# Altium footprint library SamacSys.PcbLib: 20 footprints (part 1 of 2)
Each footprint in its own frame and in the unit in brackets; x right, y up, seen from the top. Pads: shape width x height; smd on the part's side, far side on the other; paste and mask are expansions set on the pad; w line width, h text height; cw(c..) or ccw(c..) is an arc to the next point about the centre after c.
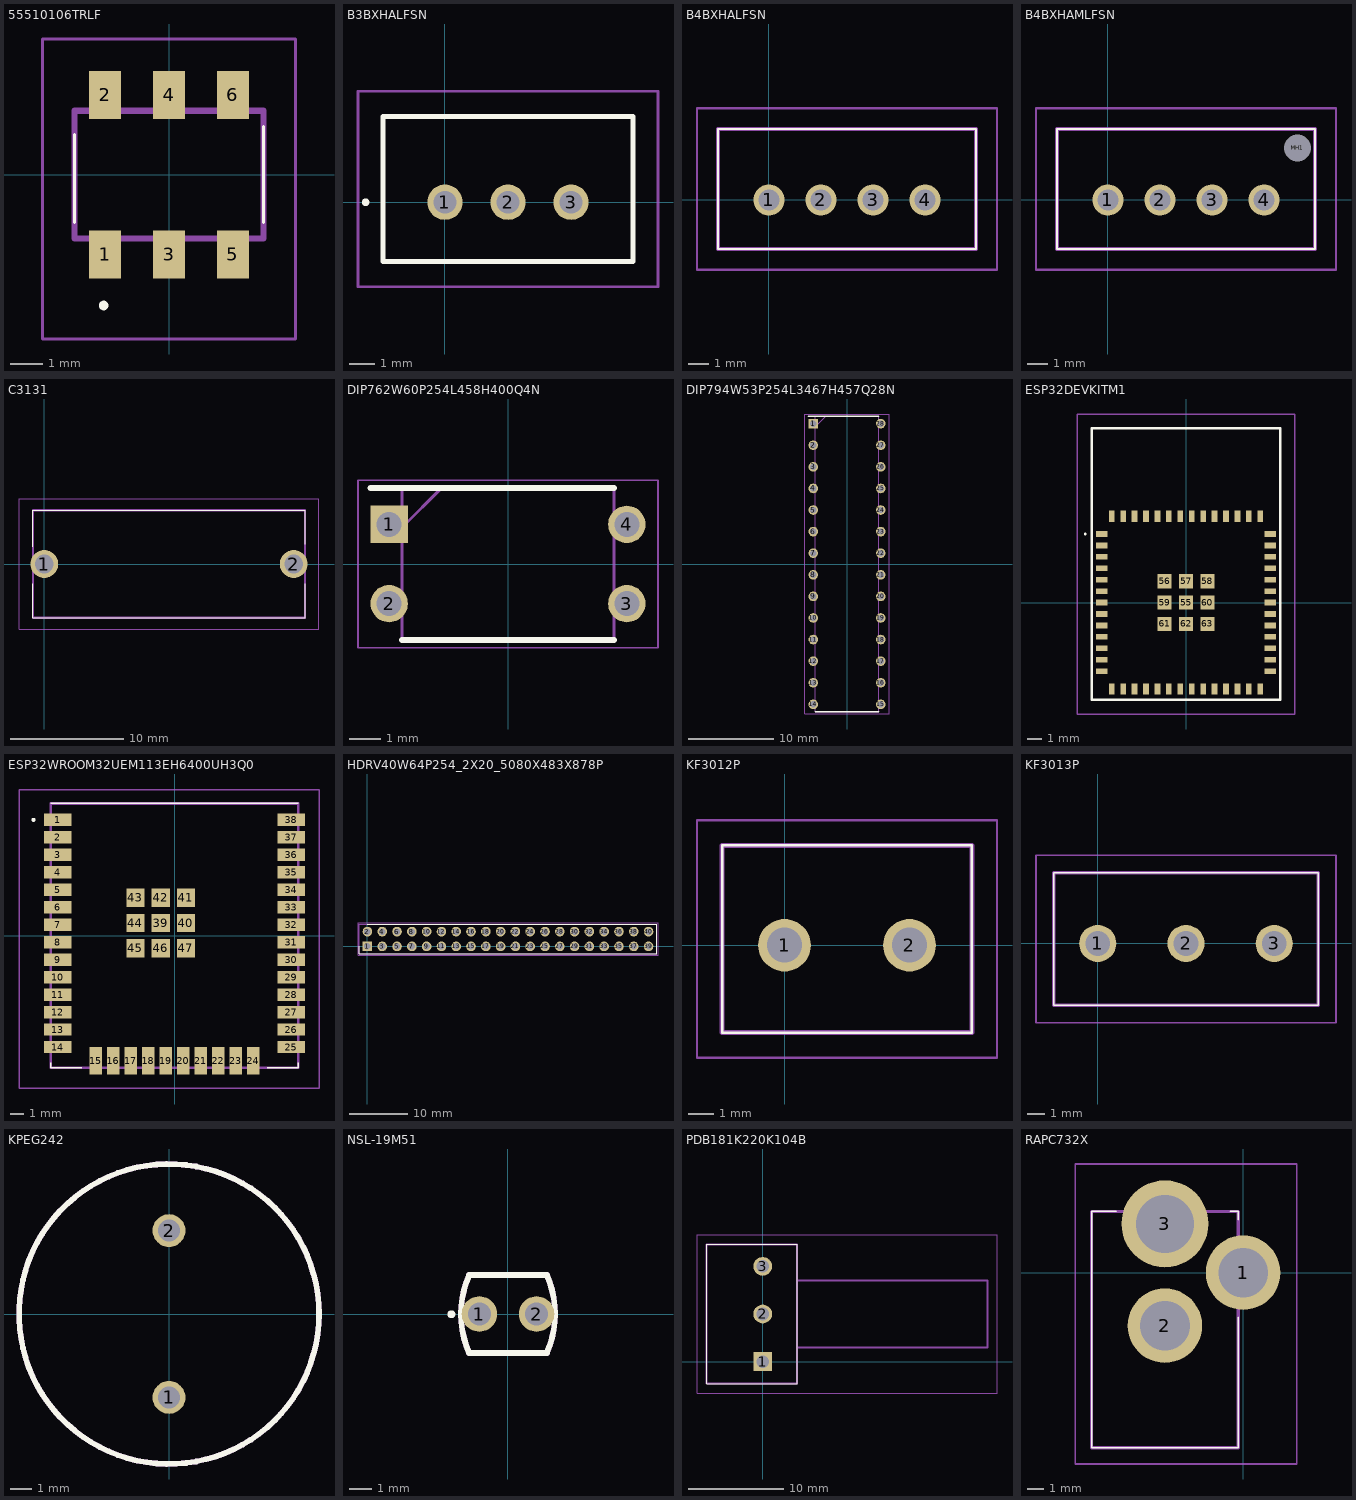
[diagram p0: the footprints below, top view; thin cyan lines are the x and y axes]

## 55510106TRLF [mm]
pads (6):
  rect 1x1.5 smd: 1(-2,-2.5) 2(-2,2.5) 3(0,-2.5) 4(0,2.5) 5(2,-2.5) 6(2,2.5)
Top Overlay:
  lines w0.1: -2.96,-1.5 -2.96,1.25 -2.96,-1.5 ; 2.96,-1.5 2.96,1.5 2.96,-1.5
  lines w0.2: -2.1,-4.1 ccw(c-2.05,-4.1) -2,-4.1 ; -2.1,-4.1 cw(c-2.05,-4.1) -2,-4.1 ; -2.1,-4.1 ccw(c-2.05,-4.1) -2,-4.1
Mechanical 13:
  lines w0.2: -2.96,-2 -2.96,2 2.96,2 2.96,-2 -2.96,-2
Mechanical 15:
  lines w0.1: -3.96,-5.15 -3.96,4.25 3.96,4.25 3.96,-5.15 -3.96,-5.15
3D body "55510-106TRLF.stp": height 4.6, standoff 0, extent -2.96,-3.15 2.96,3.15

## B3BXHALFSN [mm]
pads (3):
  round 1.4 hole 0.9: 1(0,0) 2(2.5,0) 3(5,0)
Top Overlay:
  lines w0.2: -3.2,0 ccw(c-3.15,0) -3.1,0 ; -3.2,0 cw(c-3.15,0) -3.1,0 ; -3.2,0 ccw(c-3.15,0) -3.1,0 ; -2.45,-2.35 7.45,-2.35 7.45,3.4 -2.45,3.4 -2.45,-2.35
Mechanical 13:
  lines w0.1: -2.45,-2.35 7.45,-2.35 7.45,3.4 -2.45,3.4 -2.45,-2.35
Mechanical 15:
  lines w0.1: -3.45,-3.35 8.45,-3.35 8.45,4.4 -3.45,4.4 -3.45,-3.35
3D body "B3B-XH-A_LF__SN_.stp": height 7.09, standoff -3.31, extent -2.449,-2.349 7.451,3.401

## B4BXHALFSN [mm]
pads (4):
  round 1.5 hole 1: 1(0,0) 2(2.5,0) 3(5,0) 4(7.5,0)
Top Overlay:
  lines w0.1: -2.45,-2.35 9.95,-2.35 9.95,3.4 -2.45,3.4 -2.45,-2.35
Mechanical 13:
  lines w0.2: -2.45,-2.35 9.95,-2.35 9.95,3.4 -2.45,3.4 -2.45,-2.35
Mechanical 15:
  lines w0.1: -3.45,-3.35 10.95,-3.35 10.95,4.4 -3.45,4.4 -3.45,-3.35
3D body "B4B-XH-A_LF__SN_.stp": height 7.52, standoff -2.88, extent -2.454,-2.355 9.946,3.395

## B4BXHAMLFSN [mm]
pads (5):
  round 1.5 hole 1: 1(0,0) 2(2.5,0) 3(5,0) 4(7.5,0)
  round 0.65 hole 1.3 unplated: MH1(9.1,2.5)
Top Overlay:
  lines w0.1: -2.45,-2.35 -2.45,3.4 9.95,3.4 9.95,-2.35 -2.45,-2.35
Mechanical 13:
  lines w0.2: -2.45,-2.35 -2.45,3.4 9.95,3.4 9.95,-2.35 -2.45,-2.35
Mechanical 15:
  lines w0.1: -3.45,-3.35 -3.45,4.4 10.95,4.4 10.95,-3.35 -3.45,-3.35
3D body "B4B-XH-AM__LF__SN_.stp": height 7.06, standoff -3.34, extent -2.494,-2.367 9.906,3.383

## C3131 [mm]
pads (2):
  round 2.46 hole 1.64: 1(0,0) 2(22,0)
Top Overlay:
  lines w0.1: -1,-1.75 -1,-4.75 23,-4.75 23,-1.75 ; -1,1.5 -1,4.75 23,4.75 23,1.75
Mechanical 13:
  lines w0.2: -1,-4.75 -1,4.75 23,4.75 23,-4.75 -1,-4.75
Mechanical 15:
  lines w0.1: -2.23,-5.75 -2.23,5.75 24.23,5.75 24.23,-5.75 -2.23,-5.75
3D body "C3131.stp": height 10.6, standoff -5, extent -1,-4.75 23,4.75

## DIP762W60P254L458H400Q4N [mm]
pads (4):
  rect 1.2x1.2 hole 0.8: 1(-3.81,1.27)
  round 1.2 hole 0.8: 2(-3.81,-1.27) 3(3.81,-1.27) 4(3.81,1.27)
Top Overlay:
  lines w0.2: -4.41,2.44 3.4,2.44 ; -3.4,-2.44 3.4,-2.44
Mechanical 13:
  lines w0.1: -3.4,1.17 -2.13,2.44 ; -3.4,-2.44 -3.4,2.44 3.4,2.44 3.4,-2.44 -3.4,-2.44
Mechanical 15:
  lines w0.05: -4.81,-2.69 -4.81,2.69 4.81,2.69 4.81,-2.69 -4.81,-2.69
3D body "PC817X2NSZ0F.stp": height 4, standoff -3.5, extent -3.96,-2.29 3.96,2.29

## DIP794W53P254L3467H457Q28N [mm]
pads (28):
  rect 1.133x1.133 hole 0.733: 1(-3.969,16.51)
  round 1.133 hole 0.733: 2(-3.969,13.97) 3(-3.969,11.43) 4(-3.969,8.89) 5(-3.969,6.35) 6(-3.969,3.81) 7(-3.969,1.27) 8(-3.969,-1.27) 9(-3.969,-3.81) 10(-3.969,-6.35) 11(-3.969,-8.89) 12(-3.969,-11.43) 13(-3.969,-13.97) 14(-3.969,-16.51) 15(3.969,-16.51) 16(3.969,-13.97) 17(3.969,-11.43) 18(3.969,-8.89) 19(3.969,-6.35) 20(3.969,-3.81) 21(3.969,-1.27) 22(3.969,1.27) 23(3.969,3.81) 24(3.969,6.35) 25(3.969,8.89) 26(3.969,11.43) 27(3.969,13.97) 28(3.969,16.51)
Top Overlay:
  lines w0.2: -4.535,17.399 3.746,17.399 ; -3.746,-17.399 3.746,-17.399
Mechanical 13:
  lines w0.1: -3.746,16.129 -2.476,17.399 ; -3.746,-17.399 -3.746,17.399 3.746,17.399 3.746,-17.399 -3.746,-17.399
Mechanical 15:
  lines w0.05: -4.944,-17.649 -4.944,17.649 4.944,17.649 4.944,-17.649 -4.944,-17.649
3D body "A000048.stp": height 4.57, standoff -3.5, extent -4.102,-17.335 4.102,17.335

## ESP32DEVKITM1 [mm]
pads (63):
  rect 0.8x0.4 smd: 1(-5.9,4.8) 2(-5.9,4) 3(-5.9,3.2) 4(-5.9,2.4) 5(-5.9,1.6) 6(-5.9,0.8) 7(-5.9,0) 8(-5.9,-0.8) 9(-5.9,-1.6) 10(-5.9,-2.4) 11(-5.9,-3.2) 12(-5.9,-4) 13(-5.9,-4.8) 28(5.9,-4.8) 29(5.9,-4) 30(5.9,-3.2) 31(5.9,-2.4) 32(5.9,-1.6) 33(5.9,-0.8) 34(5.9,0) 35(5.9,0.8) 36(5.9,1.6) 37(5.9,2.4) 38(5.9,3.2) 39(5.9,4) 40(5.9,4.8)
  rect 0.4x0.8 smd: 14(-5.2,-6.05) 15(-4.4,-6.05) 16(-3.6,-6.05) 17(-2.8,-6.05) 18(-2,-6.05) 19(-1.2,-6.05) 20(-0.4,-6.05) 21(0.4,-6.05) 22(1.2,-6.05) 23(2,-6.05) 24(2.8,-6.05) 25(3.6,-6.05) 26(4.4,-6.05) 27(5.2,-6.05) 41(5.2,6.05) 42(4.4,6.05) 43(3.6,6.05) 44(2.8,6.05) 45(2,6.05) 46(1.2,6.05) 47(0.4,6.05) 48(-0.4,6.05) 49(-1.2,6.05) 50(-2,6.05) 51(-2.8,6.05) 52(-3.6,6.05) 53(-4.4,6.05) 54(-5.2,6.05)
  rect 1x1 smd: 55(0,0) 56(-1.5,1.5) 57(0,1.5) 58(1.5,1.5) 59(-1.5,0) 60(1.5,0) 61(-1.5,-1.5) 62(0,-1.5) 63(1.5,-1.5)
Top Overlay:
  lines w0.1: -7.1,4.8 ccw(c-7.05,4.8) -7,4.8 ccw(c-7.05,4.8) -7.1,4.8
  lines w0.2: -6.6,-6.8 -6.6,12.2 6.6,12.2 6.6,-6.8 -6.6,-6.8
Mechanical 13:
  lines w0.1: -6.6,-6.8 -6.6,12.2 6.6,12.2 6.6,-6.8 -6.6,-6.8
Mechanical 15:
  lines w0.1: -7.6,-7.8 -7.6,13.2 7.6,13.2 7.6,-7.8 -7.6,-7.8
3D body "ESP32-DEVKITM-1.stp": height 2.4, standoff 0, extent -6.6,-6.8 6.6,12.2

## ESP32WROOM32UEM113EH6400UH3Q0 [mm]
pads (47):
  rect 2x0.9 smd: 1(-8.5,8.41) 2(-8.5,7.14) 3(-8.5,5.87) 4(-8.5,4.6) 5(-8.5,3.33) 6(-8.5,2.06) 7(-8.5,0.79) 8(-8.5,-0.48) 9(-8.5,-1.75) 10(-8.5,-3.02) 11(-8.5,-4.29) 12(-8.5,-5.56) 13(-8.5,-6.83) 14(-8.5,-8.1) 25(8.5,-8.1) 26(8.5,-6.83) 27(8.5,-5.56) 28(8.5,-4.29) 29(8.5,-3.02) 30(8.5,-1.75) 31(8.5,-0.48) 32(8.5,0.79) 33(8.5,2.06) 34(8.5,3.33) 35(8.5,4.6) 36(8.5,5.87) 37(8.5,7.14) 38(8.5,8.41)
  rect 0.9x2 smd: 15(-5.715,-9.1) 16(-4.445,-9.1) 17(-3.175,-9.1) 18(-1.905,-9.1) 19(-0.635,-9.1) 20(0.635,-9.1) 21(1.905,-9.1) 22(3.175,-9.1) 23(4.445,-9.1) 24(5.715,-9.1)
  rect 1.33x1.33 smd: 39(-1,0.91) 40(0.835,0.91) 41(0.835,2.745) 42(-1,2.745) 43(-2.835,2.745) 44(-2.835,0.91) 45(-2.835,-0.925) 46(-1,-0.925) 47(0.835,-0.925)
Top Overlay:
  lines w0.1: -9,-9.6 -6.75,-9.6 -9,-9.6 ; -9,-9.6 -9,-9.25 -9,-9.6 ; 9,-9.6 9,-9.25 9,-9.6 ; 9,-9.6 6.75,-9.6 9,-9.6 ; -9,9.6 9,9.6 -9,9.6
  lines w0.2: -10.3,8.41 cw(c-10.25,8.41) -10.2,8.41 ; -10.3,8.41 ccw(c-10.25,8.41) -10.2,8.41 ; -10.3,8.41 cw(c-10.25,8.41) -10.2,8.41
Mechanical 13:
  lines w0.2: -9,-9.6 -9,9.6 9,9.6 9,-9.6 -9,-9.6
Mechanical 15:
  lines w0.1: -11.3,-11.1 -11.3,10.6 10.5,10.6 10.5,-11.1 -11.3,-11.1
3D body "ESP32-WROOM-32UE_M113EH6400UH3Q0_.stp": height 3.3, standoff 0, extent -9,-9.6 9,15.9

## HDRV40W64P254_2X20_5080X483X878P [mm]
pads (40):
  rect 1.65x1.65 hole 1.1: 1(0,0)
  round 1.65 hole 1.1: 2(0,2.54) 3(2.54,0) 4(2.54,2.54) 5(5.08,0) 6(5.08,2.54) 7(7.62,0) 8(7.62,2.54) 9(10.16,0) 10(10.16,2.54) 11(12.7,0) 12(12.7,2.54) 13(15.24,0) 14(15.24,2.54) 15(17.78,0) 16(17.78,2.54) 17(20.32,0) 18(20.32,2.54) 19(22.86,0) 20(22.86,2.54) 21(25.4,0) 22(25.4,2.54) 23(27.94,0) 24(27.94,2.54) 25(30.48,0) 26(30.48,2.54) 27(33.02,0) 28(33.02,2.54) 29(35.56,0) 30(35.56,2.54) 31(38.1,0) 32(38.1,2.54) 33(40.64,0) 34(40.64,2.54) 35(43.18,0) 36(43.18,2.54) 37(45.72,0) 38(45.72,2.54) 39(48.26,0) 40(48.26,2.54)
Top Overlay:
  lines w0.2: -1.37,0 -1.37,-1.245 49.63,-1.245 49.63,3.785 0,3.785
Mechanical 13:
  lines w0.1: -1.37,-1.245 49.63,-1.245 49.63,3.785 -1.37,3.785 -1.37,-1.245
Mechanical 15:
  lines w0.05: -1.62,-1.495 49.88,-1.495 49.88,4.035 -1.62,4.035 -1.62,-1.495
3D body "10129381-940002BLF.stp": height 8.78, standoff -2.59, extent -1.27,-1.145 49.53,3.685

## KF3012P [mm]
pads (2):
  round 2.1 hole 1.4: 1(0,0) 2(5,0)
Top Overlay:
  lines w0.1: -2.5,-3.5 -2.5,4 7.5,4 7.5,-3.5 -2.5,-3.5
Mechanical 13:
  lines w0.2: -2.5,-3.5 -2.5,4 7.5,4 7.5,-3.5 -2.5,-3.5
Mechanical 15:
  lines w0.1: -3.5,-4.5 -3.5,5 8.5,5 8.5,-4.5 -3.5,-4.5
3D body "KF301-2P.stp": height 10, standoff -4.5, extent -2.99,-3.35 7.51,4.15

## KF3013P [mm]
pads (3):
  round 2.1 hole 1.4: 1(0,0) 2(5,0) 3(10,0)
Top Overlay:
  lines w0.1: -2.5,-3.5 -2.5,4 12.5,4 12.5,-3.5 -2.5,-3.5
Mechanical 13:
  lines w0.2: -2.5,-3.5 -2.5,4 12.5,4 12.5,-3.5 -2.5,-3.5
Mechanical 15:
  lines w0.1: -3.5,-4.5 -3.5,5 13.5,5 13.5,-4.5 -3.5,-4.5
3D body "KF301-3P.stp": height 10.04, standoff -3.96, extent -2.9,-3.31 12.5,4.19

## KPEG242 [mm]
pads (2):
  round 1.5 hole 1: 1(0,-3.81) 2(0,3.81)
Top Overlay:
  circle w0.254: c0,0 r6.85
Mechanical 13:
  circle w0.254: c0,0 r6.85
3D body "KPEG242.stp": height 7.6, standoff -5.5, extent -6.85,-6.85 6.85,6.85

## NSL-19M51 [mm]
pads (2):
  round 1.55 hole 1: 1(-1.25,0) 2(1.25,0)
Top Overlay:
  circle w0.254: c-2.471,-0.011 r0.045
  lines w0.254: -1.7,-1.7 1.7,-1.7 ; -1.701,1.698 ccw(c2.241,0) -1.698,-1.705 ; -1.7,1.7 1.7,1.7 ; 1.698,1.705 cw(c-2.241,0) 1.701,-1.698
Mechanical 13:
  lines w0.254: -1.7,-1.7 1.7,-1.7 ; -1.7,1.7 1.7,1.7 ; -1.7,-1.7 cw(c2.248,0) -1.7,1.7 ; 1.7,-1.7 ccw(c-2.248,0) 1.7,1.7
3D body "NSL-19M51.stp": height 2.11, standoff -35.8, extent -2.05,-1.7 2.05,1.7

## PDB181K220K104B [mm]
pads (3):
  rect 1.98x1.98 hole 1.32: 1(0,0)
  round 1.98 hole 1.32: 2(0,5) 3(0,10)
Top Overlay:
  lines w0.1: -5.9,-2.3 -5.9,12.3 -1.4,12.3 3.6,12.3 3.6,-2.3 -1.4,-2.3 -5.9,-2.3
Mechanical 13:
  lines w0.2: 3.6,1.5 23.6,1.5 23.6,8.5 3.6,8.5 ; -5.9,-2.3 3.6,-2.3 3.6,12.3 -5.9,12.3 -5.9,-2.3
Mechanical 15:
  lines w0.1: -6.9,-3.3 24.6,-3.3 24.6,13.3 -6.9,13.3 -6.9,-3.3

## RAPC732X [mm]
pads (3):
  round 4.575 hole 3.05: 1(0,0) 2(-4.8,-3.25)
  round 5.34 hole 3.56: 3(-4.8,3)
Top Overlay:
  lines w0.1: -7.8,3.76 -9.3,3.76 -9.3,-10.74 -0.3,-10.74 -0.3,-2.74 ; -0.8,3.76 -0.3,3.76 -0.3,3.26
Mechanical 13:
  lines w0.2: -9.3,-10.74 -9.3,3.76 -0.3,3.76 -0.3,-10.74 -9.3,-10.74
Mechanical 15:
  lines w0.1: -10.3,-11.74 -10.3,6.67 3.288,6.67 3.288,-11.74 -10.3,-11.74
3D body "RAPC732X.stp": height 11.08, standoff -3.32, extent -9.27,-10.64 0.28,3.86